# Altium integrated library Resistores.IntLib: 7 symbols
Pins are listed as number, name and electrical type; pins without a type are passive.

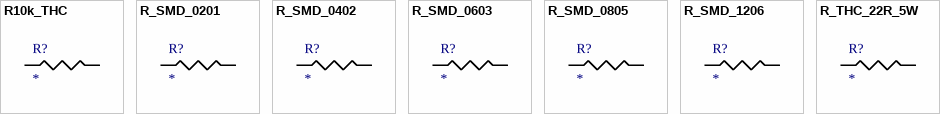
[diagram p0: symbols R10k_THC to R_THC_22R_5W]

## R10k_THC
designator R?
Supplier 1: Digikey; Supplier Part Number 1: RNF14FTD10K0CT-ND
footprint R_THC_10k
pins: 1, 2

## R_SMD_0201
designator R?
footprint R_SMD_0201
pins: 1, 2

## R_SMD_0402
designator R?
footprint R_SMD_0402
pins: 1, 2

## R_SMD_0603
designator R?
footprint R_SMD_0603
pins: 1, 2

## R_SMD_0805
designator R?
footprint R_SMD_0805
pins: 1, 2

## R_SMD_1206
designator R?
footprint R_SMD_1206
pins: 1, 2

## R_THC_22R_5W
designator R?
footprint R_THC_22R_5W
pins: 1, 2